# Altium schematic symbol library TOUCH.SchLib: 2 symbols
Pins are listed as number, name and electrical type; pins without a type are passive.

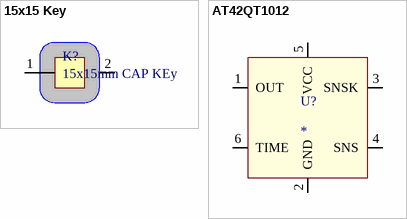
[diagram p0: symbols 15x15 Key to AT42QT1012]

## 15x15 Key
designator K?, comment 15x15mm CAP KEy
pins: 1 Key, 2 Guard

## AT42QT1012
designator U?
CAPACITIVE TOUCH KEY CONTROLLER
footprint SOT26A-6M
pins: 1 OUT, 2 GND, 3 SNSK, 4 SNS, 5 VCC, 6 TIME